# EAGLE library part 760390015 (library piccoli)
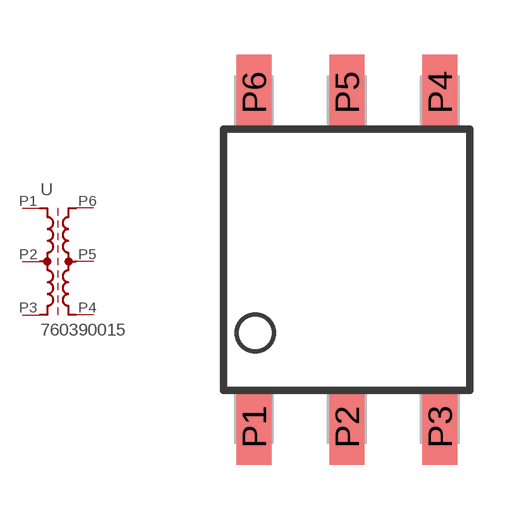
[diagram p19: symbol with the pads of SM_E6; footprint SM_E6]

Designator prefix -

## 760390015  [SM_E6]
P1  1  pas
P2  2  pas
P3  3  pas
P4  4  pas
P5  5  pas
P6  6  pas

## Footprint SM_E6 (pad centres in mm)
smd 0.96 x 2.06: P1 -2.54,-4.57; P2 0,-4.57; P3 2.54,-4.57; P4 2.54,4.57; P5 0,4.57; P6 -2.54,4.57